# Altium footprint library Connectors.PcbLib: 29 footprints (part 1 of 2)
Each footprint in its own frame and in the unit in brackets; x right, y up, seen from the top. Pads: shape width x height; smd on the part's side, far side on the other; paste and mask are expansions set on the pad; w line width, h text height; cw(c..) or ccw(c..) is an arc to the next point about the centre after c.
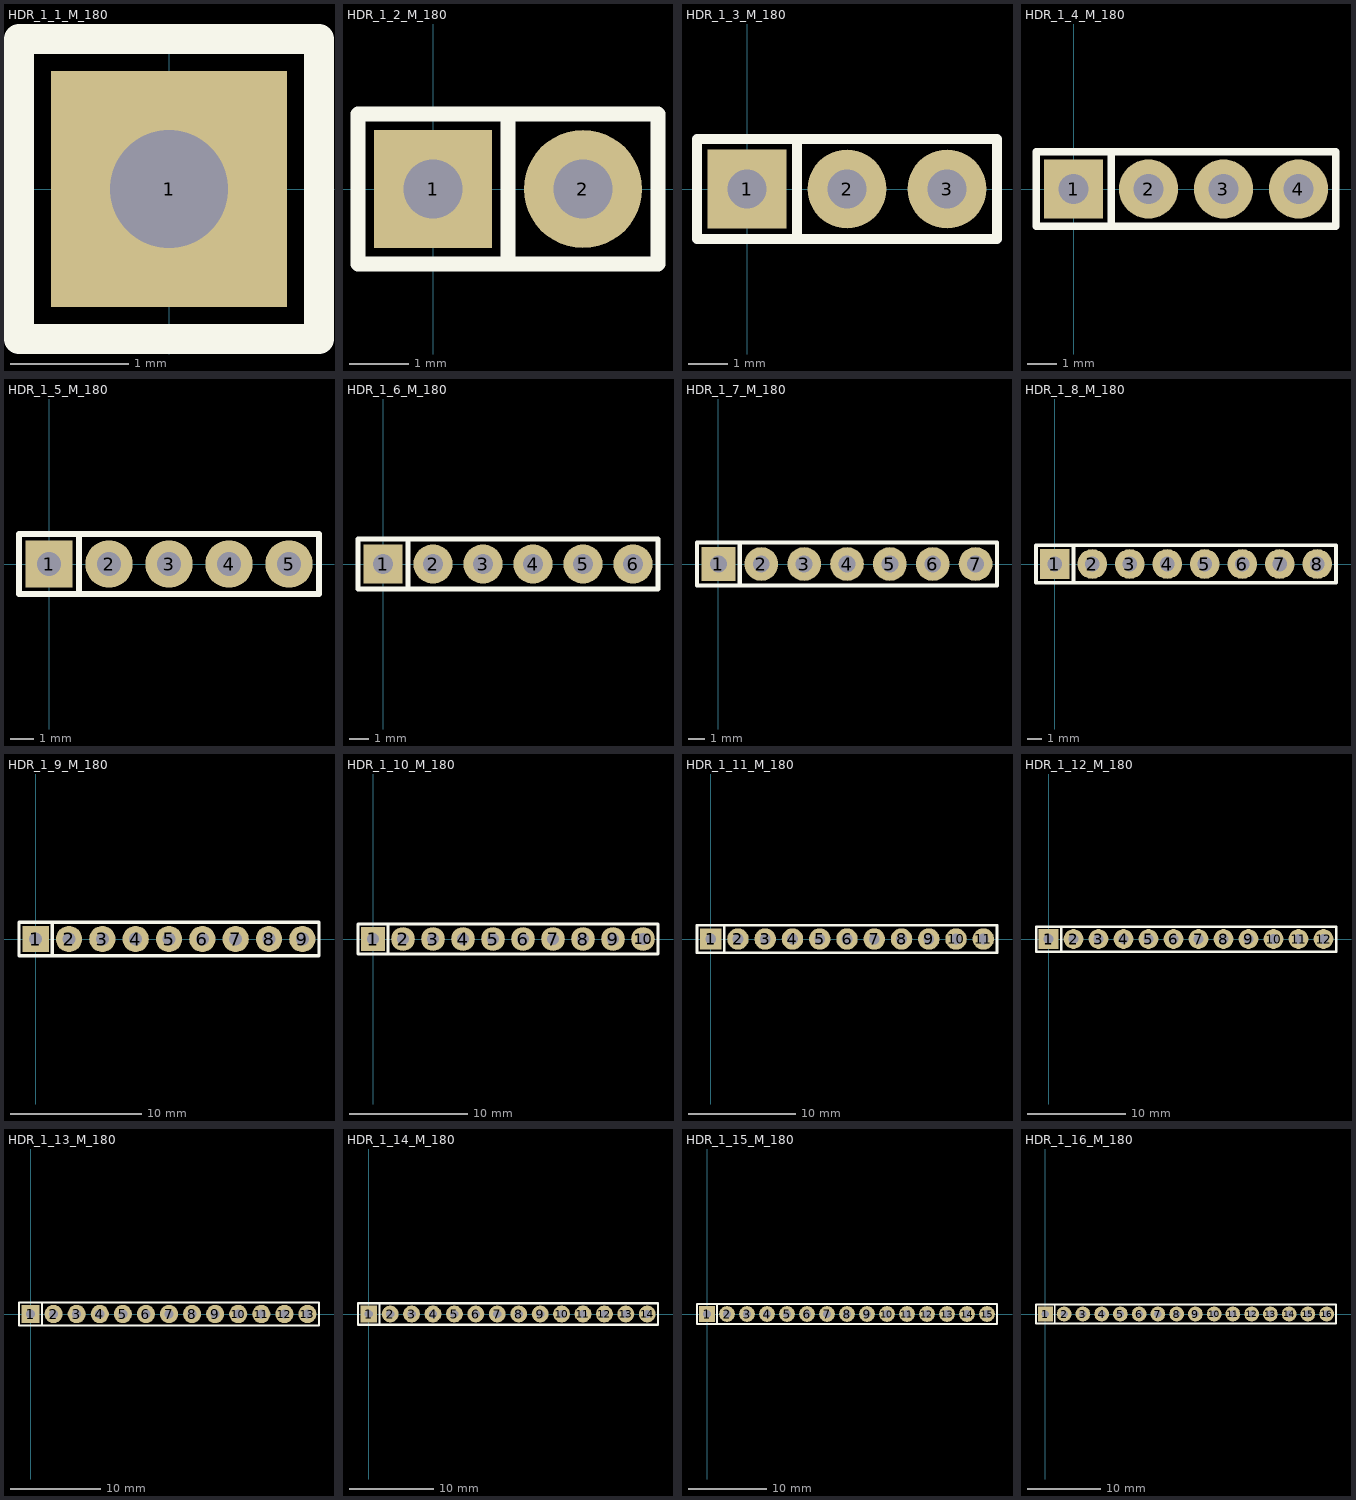
[diagram p0: the footprints below, top view; thin cyan lines are the x and y axes]

## HDR_1_1_M_180 [mm]
pads (1):
  rect 2x2 hole 1: 1(0,0)
Top Overlay:
  lines w0.254: -1.27,-1.27 1.27,-1.27 1.27,1.27 -1.27,1.27 -1.27,-1.27
3D body "User Library-Header Vertical 2_54mm Pitch2-1.step": height 5.94, standoff -2.94, extent -1.27,-1.27 1.27,1.27

## HDR_1_2_M_180 [mm]
pads (2):
  rect 2x2 hole 1: 1(0,0)
  round 2 hole 1: 2(2.54,0)
Top Overlay:
  lines w0.254: 1.27,-1.27 1.27,1.27 ; -1.27,-1.27 -1.27,1.27 3.81,1.27 3.81,-1.27 -1.27,-1.27
3D body "User Library-Header Vertical 2_54mm Pitch2-1.step": height 5.94, standoff -2.94, extent -1.27,-1.27 1.27,1.27
3D body "User Library-Header Vertical 2_54mm Pitch2-1.step": height 5.94, standoff -2.94, extent 1.27,-1.27 3.81,1.27

## HDR_1_3_M_180 [mm]
pads (3):
  rect 2x2 hole 1: 1(0,0)
  round 2 hole 1: 2(2.54,0) 3(5.08,0)
Top Overlay:
  lines w0.254: 1.27,-1.27 1.27,1.27 ; -1.27,-1.27 -1.27,1.27 6.35,1.27 6.35,-1.27 -1.27,-1.27
3D body "User Library-Header Vertical 2_54mm Pitch2-1.step": height 5.94, standoff -2.94, extent -1.27,-1.27 1.27,1.27
3D body "User Library-Header Vertical 2_54mm Pitch2-1.step": height 5.94, standoff -2.94, extent 1.27,-1.27 3.81,1.27
3D body "User Library-Header Vertical 2_54mm Pitch2-1.step": height 5.94, standoff -2.94, extent 3.81,-1.27 6.35,1.27

## HDR_1_4_M_180 [mm]
pads (4):
  rect 2x2 hole 1: 1(0,0)
  round 2 hole 1: 2(2.54,0) 3(5.08,0) 4(7.62,0)
Top Overlay:
  lines w0.254: 1.27,-1.27 1.27,1.27 ; -1.27,-1.27 -1.27,1.27 8.89,1.27 8.89,-1.27 -1.27,-1.27
3D body "User Library-Header Vertical 2_54mm Pitch2-1.step": height 5.94, standoff -2.94, extent -1.27,-1.27 1.27,1.27
3D body "User Library-Header Vertical 2_54mm Pitch2-1.step": height 5.94, standoff -2.94, extent 1.27,-1.27 3.81,1.27
3D body "User Library-Header Vertical 2_54mm Pitch2-1.step": height 5.94, standoff -2.94, extent 3.81,-1.27 6.35,1.27
3D body "User Library-Header Vertical 2_54mm Pitch2-1.step": height 5.94, standoff -2.94, extent 6.35,-1.27 8.89,1.27

## HDR_1_5_M_180 [mm]
pads (5):
  rect 2x2 hole 1: 1(0,0)
  round 2 hole 1: 2(2.54,0) 3(5.08,0) 4(7.62,0) 5(10.16,0)
Top Overlay:
  lines w0.254: 1.27,-1.27 1.27,1.27 ; -1.27,-1.27 -1.27,1.27 11.43,1.27 11.43,-1.27 -1.27,-1.27
3D body "User Library-Header Vertical 2_54mm Pitch2-1.step": height 5.94, standoff -2.94, extent -1.27,-1.27 1.27,1.27
3D body "User Library-Header Vertical 2_54mm Pitch2-1.step": height 5.94, standoff -2.94, extent 1.27,-1.27 3.81,1.27
3D body "User Library-Header Vertical 2_54mm Pitch2-1.step": height 5.94, standoff -2.94, extent 3.81,-1.27 6.35,1.27
3D body "User Library-Header Vertical 2_54mm Pitch2-1.step": height 5.94, standoff -2.94, extent 6.35,-1.27 8.89,1.27
3D body "User Library-Header Vertical 2_54mm Pitch2-1.step": height 5.94, standoff -2.94, extent 8.89,-1.27 11.43,1.27

## HDR_1_6_M_180 [mm]
pads (6):
  rect 2x2 hole 1: 1(0,0)
  round 2 hole 1: 2(2.54,0) 3(5.08,0) 4(7.62,0) 5(10.16,0) 6(12.7,0)
Top Overlay:
  lines w0.254: 1.27,-1.27 1.27,1.27 ; -1.27,-1.27 13.97,-1.27 13.97,1.27 -1.27,1.27 -1.27,-1.27
3D body "User Library-Header Vertical 2_54mm Pitch2-1.step": height 5.94, standoff -2.94, extent 8.89,-1.27 11.43,1.27
3D body "User Library-Header Vertical 2_54mm Pitch2-1.step": height 5.94, standoff -2.94, extent 6.35,-1.27 8.89,1.27
3D body "User Library-Header Vertical 2_54mm Pitch2-1.step": height 5.94, standoff -2.94, extent 3.81,-1.27 6.35,1.27
3D body "User Library-Header Vertical 2_54mm Pitch2-1.step": height 5.94, standoff -2.94, extent 1.27,-1.27 3.81,1.27
3D body "User Library-Header Vertical 2_54mm Pitch2-1.step": height 5.94, standoff -2.94, extent -1.27,-1.27 1.27,1.27
3D body "User Library-Header Vertical 2_54mm Pitch2-1.step": height 5.94, standoff -2.94, extent 11.43,-1.27 13.97,1.27

## HDR_1_7_M_180 [mm]
pads (7):
  rect 2x2 hole 1: 1(0,0)
  round 2 hole 1: 2(2.54,0) 3(5.08,0) 4(7.62,0) 5(10.16,0) 6(12.7,0) 7(15.24,0)
Top Overlay:
  lines w0.254: 1.27,-1.27 1.27,1.27 ; -1.27,-1.27 16.51,-1.27 16.51,1.27 -1.27,1.27 -1.27,-1.27
3D body "User Library-Header Vertical 2_54mm Pitch2-1.step": height 5.94, standoff -2.94, extent 8.89,-1.27 11.43,1.27
3D body "User Library-Header Vertical 2_54mm Pitch2-1.step": height 5.94, standoff -2.94, extent 6.35,-1.27 8.89,1.27
3D body "User Library-Header Vertical 2_54mm Pitch2-1.step": height 5.94, standoff -2.94, extent 3.81,-1.27 6.35,1.27
3D body "User Library-Header Vertical 2_54mm Pitch2-1.step": height 5.94, standoff -2.94, extent 1.27,-1.27 3.81,1.27
3D body "User Library-Header Vertical 2_54mm Pitch2-1.step": height 5.94, standoff -2.94, extent -1.27,-1.27 1.27,1.27
3D body "User Library-Header Vertical 2_54mm Pitch2-1.step": height 5.94, standoff -2.94, extent 11.43,-1.27 13.97,1.27
3D body "User Library-Header Vertical 2_54mm Pitch2-1.step": height 5.94, standoff -2.94, extent 13.97,-1.27 16.51,1.27

## HDR_1_8_M_180 [mm]
pads (8):
  rect 2x2 hole 1: 1(0,0)
  round 2 hole 1: 2(2.54,0) 3(5.08,0) 4(7.62,0) 5(10.16,0) 6(12.7,0) 7(15.24,0) 8(17.78,0)
Top Overlay:
  lines w0.254: 1.27,-1.27 1.27,1.27 ; -1.27,-1.27 19.05,-1.27 19.05,1.27 -1.27,1.27 -1.27,-1.27
3D body "User Library-Header Vertical 2_54mm Pitch2-1.step": height 5.94, standoff -2.94, extent 8.89,-1.27 11.43,1.27
3D body "User Library-Header Vertical 2_54mm Pitch2-1.step": height 5.94, standoff -2.94, extent 6.35,-1.27 8.89,1.27
3D body "User Library-Header Vertical 2_54mm Pitch2-1.step": height 5.94, standoff -2.94, extent 3.81,-1.27 6.35,1.27
3D body "User Library-Header Vertical 2_54mm Pitch2-1.step": height 5.94, standoff -2.94, extent 1.27,-1.27 3.81,1.27
3D body "User Library-Header Vertical 2_54mm Pitch2-1.step": height 5.94, standoff -2.94, extent -1.27,-1.27 1.27,1.27
3D body "User Library-Header Vertical 2_54mm Pitch2-1.step": height 5.94, standoff -2.94, extent 11.43,-1.27 13.97,1.27
3D body "User Library-Header Vertical 2_54mm Pitch2-1.step": height 5.94, standoff -2.94, extent 13.97,-1.27 16.51,1.27
3D body "User Library-Header Vertical 2_54mm Pitch2-1.step": height 5.94, standoff -2.94, extent 16.51,-1.27 19.05,1.27

## HDR_1_9_M_180 [mm]
pads (9):
  rect 2x2 hole 1: 1(0,0)
  round 2 hole 1: 2(2.54,0) 3(5.08,0) 4(7.62,0) 5(10.16,0) 6(12.7,0) 7(15.24,0) 8(17.78,0) 9(20.32,0)
Top Overlay:
  lines w0.254: 1.27,-1.27 1.27,1.27 ; -1.27,-1.27 21.59,-1.27 21.59,1.27 -1.27,1.27 -1.27,-1.27
3D body "User Library-Header Vertical 2_54mm Pitch2-1.step": height 5.94, standoff -2.94, extent 8.89,-1.27 11.43,1.27
3D body "User Library-Header Vertical 2_54mm Pitch2-1.step": height 5.94, standoff -2.94, extent 6.35,-1.27 8.89,1.27
3D body "User Library-Header Vertical 2_54mm Pitch2-1.step": height 5.94, standoff -2.94, extent 3.81,-1.27 6.35,1.27
3D body "User Library-Header Vertical 2_54mm Pitch2-1.step": height 5.94, standoff -2.94, extent 1.27,-1.27 3.81,1.27
3D body "User Library-Header Vertical 2_54mm Pitch2-1.step": height 5.94, standoff -2.94, extent -1.27,-1.27 1.27,1.27
3D body "User Library-Header Vertical 2_54mm Pitch2-1.step": height 5.94, standoff -2.94, extent 11.43,-1.27 13.97,1.27
3D body "User Library-Header Vertical 2_54mm Pitch2-1.step": height 5.94, standoff -2.94, extent 13.97,-1.27 16.51,1.27
3D body "User Library-Header Vertical 2_54mm Pitch2-1.step": height 5.94, standoff -2.94, extent 16.51,-1.27 19.05,1.27
3D body "User Library-Header Vertical 2_54mm Pitch2-1.step": height 5.94, standoff -2.94, extent 19.05,-1.27 21.59,1.27

## HDR_1_10_M_180 [mm]
pads (10):
  rect 2x2 hole 1: 1(0,0)
  round 2 hole 1: 2(2.54,0) 3(5.08,0) 4(7.62,0) 5(10.16,0) 6(12.7,0) 7(15.24,0) 8(17.78,0) 9(20.32,0) 10(22.86,0)
Top Overlay:
  lines w0.254: 1.27,-1.27 1.27,1.27 ; -1.27,-1.27 -1.27,1.27 24.13,1.27 24.13,-1.27 -1.27,-1.27
3D body "User Library-Header Vertical 2_54mm Pitch2-1.step": height 5.94, standoff -2.94, extent 21.59,-1.27 24.13,1.27
3D body "User Library-Header Vertical 2_54mm Pitch2-1.step": height 5.94, standoff -2.94, extent 19.05,-1.27 21.59,1.27
3D body "User Library-Header Vertical 2_54mm Pitch2-1.step": height 5.94, standoff -2.94, extent 16.51,-1.27 19.05,1.27
3D body "User Library-Header Vertical 2_54mm Pitch2-1.step": height 5.94, standoff -2.94, extent 13.97,-1.27 16.51,1.27
3D body "User Library-Header Vertical 2_54mm Pitch2-1.step": height 5.94, standoff -2.94, extent 11.43,-1.27 13.97,1.27
3D body "User Library-Header Vertical 2_54mm Pitch2-1.step": height 5.94, standoff -2.94, extent -1.27,-1.27 1.27,1.27
3D body "User Library-Header Vertical 2_54mm Pitch2-1.step": height 5.94, standoff -2.94, extent 1.27,-1.27 3.81,1.27
3D body "User Library-Header Vertical 2_54mm Pitch2-1.step": height 5.94, standoff -2.94, extent 3.81,-1.27 6.35,1.27
3D body "User Library-Header Vertical 2_54mm Pitch2-1.step": height 5.94, standoff -2.94, extent 6.35,-1.27 8.89,1.27
3D body "User Library-Header Vertical 2_54mm Pitch2-1.step": height 5.94, standoff -2.94, extent 8.89,-1.27 11.43,1.27

## HDR_1_11_M_180 [mm]
pads (11):
  rect 2x2 hole 1: 1(0,0)
  round 2 hole 1: 2(2.54,0) 3(5.08,0) 4(7.62,0) 5(10.16,0) 6(12.7,0) 7(15.24,0) 8(17.78,0) 9(20.32,0) 10(22.86,0) 11(25.4,0)
Top Overlay:
  lines w0.254: 1.27,-1.27 1.27,1.27 ; -1.27,-1.27 -1.27,1.27 26.67,1.27 26.67,-1.27 -1.27,-1.27
3D body "User Library-Header Vertical 2_54mm Pitch2-1.step": height 5.94, standoff -2.94, extent 21.59,-1.27 24.13,1.27
3D body "User Library-Header Vertical 2_54mm Pitch2-1.step": height 5.94, standoff -2.94, extent 19.05,-1.27 21.59,1.27
3D body "User Library-Header Vertical 2_54mm Pitch2-1.step": height 5.94, standoff -2.94, extent 16.51,-1.27 19.05,1.27
3D body "User Library-Header Vertical 2_54mm Pitch2-1.step": height 5.94, standoff -2.94, extent 13.97,-1.27 16.51,1.27
3D body "User Library-Header Vertical 2_54mm Pitch2-1.step": height 5.94, standoff -2.94, extent 11.43,-1.27 13.97,1.27
3D body "User Library-Header Vertical 2_54mm Pitch2-1.step": height 5.94, standoff -2.94, extent -1.27,-1.27 1.27,1.27
3D body "User Library-Header Vertical 2_54mm Pitch2-1.step": height 5.94, standoff -2.94, extent 1.27,-1.27 3.81,1.27
3D body "User Library-Header Vertical 2_54mm Pitch2-1.step": height 5.94, standoff -2.94, extent 3.81,-1.27 6.35,1.27
3D body "User Library-Header Vertical 2_54mm Pitch2-1.step": height 5.94, standoff -2.94, extent 6.35,-1.27 8.89,1.27
3D body "User Library-Header Vertical 2_54mm Pitch2-1.step": height 5.94, standoff -2.94, extent 8.89,-1.27 11.43,1.27
3D body "User Library-Header Vertical 2_54mm Pitch2-1.step": height 5.94, standoff -2.94, extent 24.13,-1.27 26.67,1.27

## HDR_1_12_M_180 [mm]
pads (12):
  rect 2x2 hole 1: 1(0,0)
  round 2 hole 1: 2(2.54,0) 3(5.08,0) 4(7.62,0) 5(10.16,0) 6(12.7,0) 7(15.24,0) 8(17.78,0) 9(20.32,0) 10(22.86,0) 11(25.4,0) 12(27.94,0)
Top Overlay:
  lines w0.254: 1.27,-1.27 1.27,1.27 ; -1.27,-1.27 -1.27,1.27 29.21,1.27 29.21,-1.27 -1.27,-1.27
3D body "User Library-Header Vertical 2_54mm Pitch2-1.step": height 5.94, standoff -2.94, extent 21.59,-1.27 24.13,1.27
3D body "User Library-Header Vertical 2_54mm Pitch2-1.step": height 5.94, standoff -2.94, extent 19.05,-1.27 21.59,1.27
3D body "User Library-Header Vertical 2_54mm Pitch2-1.step": height 5.94, standoff -2.94, extent 16.51,-1.27 19.05,1.27
3D body "User Library-Header Vertical 2_54mm Pitch2-1.step": height 5.94, standoff -2.94, extent 13.97,-1.27 16.51,1.27
3D body "User Library-Header Vertical 2_54mm Pitch2-1.step": height 5.94, standoff -2.94, extent 11.43,-1.27 13.97,1.27
3D body "User Library-Header Vertical 2_54mm Pitch2-1.step": height 5.94, standoff -2.94, extent -1.27,-1.27 1.27,1.27
3D body "User Library-Header Vertical 2_54mm Pitch2-1.step": height 5.94, standoff -2.94, extent 1.27,-1.27 3.81,1.27
3D body "User Library-Header Vertical 2_54mm Pitch2-1.step": height 5.94, standoff -2.94, extent 3.81,-1.27 6.35,1.27
3D body "User Library-Header Vertical 2_54mm Pitch2-1.step": height 5.94, standoff -2.94, extent 6.35,-1.27 8.89,1.27
3D body "User Library-Header Vertical 2_54mm Pitch2-1.step": height 5.94, standoff -2.94, extent 8.89,-1.27 11.43,1.27
3D body "User Library-Header Vertical 2_54mm Pitch2-1.step": height 5.94, standoff -2.94, extent 24.13,-1.27 26.67,1.27
3D body "User Library-Header Vertical 2_54mm Pitch2-1.step": height 5.94, standoff -2.94, extent 26.67,-1.27 29.21,1.27

## HDR_1_13_M_180 [mm]
pads (13):
  rect 2x2 hole 1: 1(0,0)
  round 2 hole 1: 2(2.54,0) 3(5.08,0) 4(7.62,0) 5(10.16,0) 6(12.7,0) 7(15.24,0) 8(17.78,0) 9(20.32,0) 10(22.86,0) 11(25.4,0) 12(27.94,0) 13(30.48,0)
Top Overlay:
  lines w0.254: 1.27,-1.27 1.27,1.27 ; -1.27,-1.27 31.75,-1.27 31.75,1.27 -1.27,1.27 -1.27,-1.27
3D body "User Library-Header Vertical 2_54mm Pitch2-1.step": height 5.94, standoff -2.94, extent 29.21,-1.27 31.75,1.27
3D body "User Library-Header Vertical 2_54mm Pitch2-1.step": height 5.94, standoff -2.94, extent 26.67,-1.27 29.21,1.27
3D body "User Library-Header Vertical 2_54mm Pitch2-1.step": height 5.94, standoff -2.94, extent 24.13,-1.27 26.67,1.27
3D body "User Library-Header Vertical 2_54mm Pitch2-1.step": height 5.94, standoff -2.94, extent 8.89,-1.27 11.43,1.27
3D body "User Library-Header Vertical 2_54mm Pitch2-1.step": height 5.94, standoff -2.94, extent 6.35,-1.27 8.89,1.27
3D body "User Library-Header Vertical 2_54mm Pitch2-1.step": height 5.94, standoff -2.94, extent 3.81,-1.27 6.35,1.27
3D body "User Library-Header Vertical 2_54mm Pitch2-1.step": height 5.94, standoff -2.94, extent 1.27,-1.27 3.81,1.27
3D body "User Library-Header Vertical 2_54mm Pitch2-1.step": height 5.94, standoff -2.94, extent -1.27,-1.27 1.27,1.27
3D body "User Library-Header Vertical 2_54mm Pitch2-1.step": height 5.94, standoff -2.94, extent 11.43,-1.27 13.97,1.27
3D body "User Library-Header Vertical 2_54mm Pitch2-1.step": height 5.94, standoff -2.94, extent 13.97,-1.27 16.51,1.27
3D body "User Library-Header Vertical 2_54mm Pitch2-1.step": height 5.94, standoff -2.94, extent 16.51,-1.27 19.05,1.27
3D body "User Library-Header Vertical 2_54mm Pitch2-1.step": height 5.94, standoff -2.94, extent 19.05,-1.27 21.59,1.27
3D body "User Library-Header Vertical 2_54mm Pitch2-1.step": height 5.94, standoff -2.94, extent 21.59,-1.27 24.13,1.27

## HDR_1_14_M_180 [mm]
pads (14):
  rect 2x2 hole 1: 1(0,0)
  round 2 hole 1: 2(2.54,0) 3(5.08,0) 4(7.62,0) 5(10.16,0) 6(12.7,0) 7(15.24,0) 8(17.78,0) 9(20.32,0) 10(22.86,0) 11(25.4,0) 12(27.94,0) 13(30.48,0) 14(33.02,0)
Top Overlay:
  lines w0.254: 1.27,-1.27 1.27,1.27 ; -1.27,-1.27 34.29,-1.27 34.29,1.27 -1.27,1.27 -1.27,-1.27
3D body "User Library-Header Vertical 2_54mm Pitch2-1.step": height 5.94, standoff -2.94, extent 31.75,-1.27 34.29,1.27
3D body "User Library-Header Vertical 2_54mm Pitch2-1.step": height 5.94, standoff -2.94, extent 29.21,-1.27 31.75,1.27
3D body "User Library-Header Vertical 2_54mm Pitch2-1.step": height 5.94, standoff -2.94, extent 26.67,-1.27 29.21,1.27
3D body "User Library-Header Vertical 2_54mm Pitch2-1.step": height 5.94, standoff -2.94, extent 24.13,-1.27 26.67,1.27
3D body "User Library-Header Vertical 2_54mm Pitch2-1.step": height 5.94, standoff -2.94, extent 8.89,-1.27 11.43,1.27
3D body "User Library-Header Vertical 2_54mm Pitch2-1.step": height 5.94, standoff -2.94, extent 6.35,-1.27 8.89,1.27
3D body "User Library-Header Vertical 2_54mm Pitch2-1.step": height 5.94, standoff -2.94, extent 3.81,-1.27 6.35,1.27
3D body "User Library-Header Vertical 2_54mm Pitch2-1.step": height 5.94, standoff -2.94, extent 1.27,-1.27 3.81,1.27
3D body "User Library-Header Vertical 2_54mm Pitch2-1.step": height 5.94, standoff -2.94, extent -1.27,-1.27 1.27,1.27
3D body "User Library-Header Vertical 2_54mm Pitch2-1.step": height 5.94, standoff -2.94, extent 11.43,-1.27 13.97,1.27
3D body "User Library-Header Vertical 2_54mm Pitch2-1.step": height 5.94, standoff -2.94, extent 13.97,-1.27 16.51,1.27
3D body "User Library-Header Vertical 2_54mm Pitch2-1.step": height 5.94, standoff -2.94, extent 16.51,-1.27 19.05,1.27
3D body "User Library-Header Vertical 2_54mm Pitch2-1.step": height 5.94, standoff -2.94, extent 19.05,-1.27 21.59,1.27
3D body "User Library-Header Vertical 2_54mm Pitch2-1.step": height 5.94, standoff -2.94, extent 21.59,-1.27 24.13,1.27

## HDR_1_15_M_180 [mm]
pads (15):
  rect 2x2 hole 1: 1(0,0)
  round 2 hole 1: 2(2.54,0) 3(5.08,0) 4(7.62,0) 5(10.16,0) 6(12.7,0) 7(15.24,0) 8(17.78,0) 9(20.32,0) 10(22.86,0) 11(25.4,0) 12(27.94,0) 13(30.48,0) 14(33.02,0) 15(35.56,0)
Top Overlay:
  lines w0.254: 1.27,-1.27 1.27,1.27 ; -1.27,-1.27 36.83,-1.27 36.83,1.27 -1.27,1.27 -1.27,-1.27
3D body "User Library-Header Vertical 2_54mm Pitch2-1.step": height 5.94, standoff -2.94, extent 34.29,-1.27 36.83,1.27
3D body "User Library-Header Vertical 2_54mm Pitch2-1.step": height 5.94, standoff -2.94, extent 31.75,-1.27 34.29,1.27
3D body "User Library-Header Vertical 2_54mm Pitch2-1.step": height 5.94, standoff -2.94, extent 29.21,-1.27 31.75,1.27
3D body "User Library-Header Vertical 2_54mm Pitch2-1.step": height 5.94, standoff -2.94, extent 26.67,-1.27 29.21,1.27
3D body "User Library-Header Vertical 2_54mm Pitch2-1.step": height 5.94, standoff -2.94, extent 24.13,-1.27 26.67,1.27
3D body "User Library-Header Vertical 2_54mm Pitch2-1.step": height 5.94, standoff -2.94, extent 8.89,-1.27 11.43,1.27
3D body "User Library-Header Vertical 2_54mm Pitch2-1.step": height 5.94, standoff -2.94, extent 6.35,-1.27 8.89,1.27
3D body "User Library-Header Vertical 2_54mm Pitch2-1.step": height 5.94, standoff -2.94, extent 3.81,-1.27 6.35,1.27
3D body "User Library-Header Vertical 2_54mm Pitch2-1.step": height 5.94, standoff -2.94, extent 1.27,-1.27 3.81,1.27
3D body "User Library-Header Vertical 2_54mm Pitch2-1.step": height 5.94, standoff -2.94, extent -1.27,-1.27 1.27,1.27
3D body "User Library-Header Vertical 2_54mm Pitch2-1.step": height 5.94, standoff -2.94, extent 11.43,-1.27 13.97,1.27
3D body "User Library-Header Vertical 2_54mm Pitch2-1.step": height 5.94, standoff -2.94, extent 13.97,-1.27 16.51,1.27
3D body "User Library-Header Vertical 2_54mm Pitch2-1.step": height 5.94, standoff -2.94, extent 16.51,-1.27 19.05,1.27
3D body "User Library-Header Vertical 2_54mm Pitch2-1.step": height 5.94, standoff -2.94, extent 19.05,-1.27 21.59,1.27
3D body "User Library-Header Vertical 2_54mm Pitch2-1.step": height 5.94, standoff -2.94, extent 21.59,-1.27 24.13,1.27

## HDR_1_16_M_180 [mm]
pads (16):
  rect 2x2 hole 1: 1(0,0)
  round 2 hole 1: 2(2.54,0) 3(5.08,0) 4(7.62,0) 5(10.16,0) 6(12.7,0) 7(15.24,0) 8(17.78,0) 9(20.32,0) 10(22.86,0) 11(25.4,0) 12(27.94,0) 13(30.48,0) 14(33.02,0) 15(35.56,0) 16(38.1,0)
Top Overlay:
  lines w0.254: 1.27,-1.27 1.27,1.27 ; -1.27,-1.27 39.37,-1.27 39.37,1.27 -1.27,1.27 -1.27,-1.27
3D body "User Library-Header Vertical 2_54mm Pitch2-1.step": height 5.94, standoff -2.94, extent 34.29,-1.27 36.83,1.27
3D body "User Library-Header Vertical 2_54mm Pitch2-1.step": height 5.94, standoff -2.94, extent 31.75,-1.27 34.29,1.27
3D body "User Library-Header Vertical 2_54mm Pitch2-1.step": height 5.94, standoff -2.94, extent 29.21,-1.27 31.75,1.27
3D body "User Library-Header Vertical 2_54mm Pitch2-1.step": height 5.94, standoff -2.94, extent 26.67,-1.27 29.21,1.27
3D body "User Library-Header Vertical 2_54mm Pitch2-1.step": height 5.94, standoff -2.94, extent 24.13,-1.27 26.67,1.27
3D body "User Library-Header Vertical 2_54mm Pitch2-1.step": height 5.94, standoff -2.94, extent 36.83,-1.27 39.37,1.27
3D body "User Library-Header Vertical 2_54mm Pitch2-1.step": height 5.94, standoff -2.94, extent 8.89,-1.27 11.43,1.27
3D body "User Library-Header Vertical 2_54mm Pitch2-1.step": height 5.94, standoff -2.94, extent 6.35,-1.27 8.89,1.27
3D body "User Library-Header Vertical 2_54mm Pitch2-1.step": height 5.94, standoff -2.94, extent 3.81,-1.27 6.35,1.27
3D body "User Library-Header Vertical 2_54mm Pitch2-1.step": height 5.94, standoff -2.94, extent 1.27,-1.27 3.81,1.27
3D body "User Library-Header Vertical 2_54mm Pitch2-1.step": height 5.94, standoff -2.94, extent -1.27,-1.27 1.27,1.27
3D body "User Library-Header Vertical 2_54mm Pitch2-1.step": height 5.94, standoff -2.94, extent 11.43,-1.27 13.97,1.27
3D body "User Library-Header Vertical 2_54mm Pitch2-1.step": height 5.94, standoff -2.94, extent 13.97,-1.27 16.51,1.27
3D body "User Library-Header Vertical 2_54mm Pitch2-1.step": height 5.94, standoff -2.94, extent 16.51,-1.27 19.05,1.27
3D body "User Library-Header Vertical 2_54mm Pitch2-1.step": height 5.94, standoff -2.94, extent 19.05,-1.27 21.59,1.27
3D body "User Library-Header Vertical 2_54mm Pitch2-1.step": height 5.94, standoff -2.94, extent 21.59,-1.27 24.13,1.27